# Altium schematic symbol library MCP4728-E_UN.SchLib: 1 symbol
Pins are listed as number, name and electrical type; pins without a type are passive.

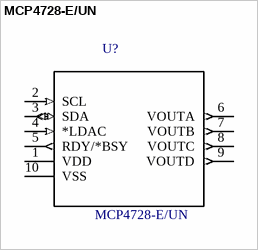
[diagram p0: symbol MCP4728-E/UN]

## MCP4728-E/UN
designator U?
MCP4728 Series 4 Ch I2C EEPROM Memory 5.5 V 12-Bit D/A Converter SMT - MSOP-10; MF: Microchip; Package: MSOP-10 Microchip; MP: MCP4728-E/UN; Digi-Key_Purchase_URL: https://www.digikey.com/product-detail/en/microchip-technology/MCP4728-E-UN/MCP4728-E-UN-ND/2125526?utm_source=snapeda&utm_medium=aggregator&utm_campaign=symbol; Digi-Key_Part_Number: MCP4728-E/UN-ND; SnapEDA_Link: https://www.snapeda.com/parts/MCP4728-E/UN/Microchip/view-part/?ref=snap; Value: *
footprint *SOP50P490X110-10N
pins: 1 VDD (power), 2 SCL (in), 3 SDA (io), 4 *LDAC (in), 5 RDY/*BSY (out), 6 VOUTA (out), 7 VOUTB (out), 8 VOUTC (out), 9 VOUTD (out), 10 VSS (power)